# EAGLE library part TLC5928 (library ASL)
TI 16 Channel Constant Current LED Driver
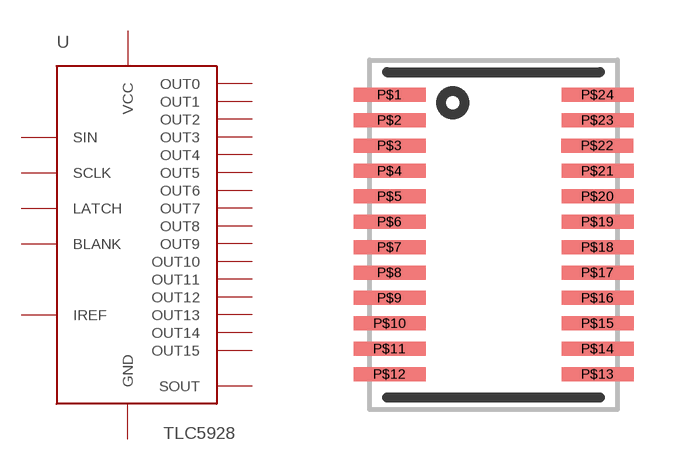
[diagram p20: symbol with the pads of TSSOP-24; footprint TSSOP-24]

Designator prefix U

## TLC5928DBQR  [TSSOP-24]
P$1  GND  pwr
P$2  SIN  in
P$3  SCLK  in
P$4  LATCH  in
P$5  OUT0  out
P$6  OUT1  out
P$7  OUT2  out
P$8  OUT3  out
P$9  OUT4  out
P$10  OUT5  out
P$11  OUT6  out
P$12  OUT7  out
P$13  OUT8  out
P$14  OUT9  out
P$15  OUT10  out
P$16  OUT11  out
P$17  OUT12  out
P$18  OUT13  out
P$19  OUT14  out
P$20  OUT15  out
P$21  BLANK  in
P$22  SOUT  in
P$23  IREF  in
P$24  VCC  pwr

## Footprint TSSOP-24 (pad centres in mm)
TSSOP-24
smd 1.8 x 0.35: P$1 -2.6,3.5; P$2 -2.6,2.865; P$3 -2.6,2.23; P$4 -2.6,1.595; P$5 -2.6,0.96; P$6 -2.6,0.325; P$7 -2.6,-0.31; P$8 -2.6,-0.945; P$9 -2.6,-1.58; P$10 -2.595,-2.215; P$11 -2.6,-2.85; P$12 -2.6,-3.485; P$13 2.6,-3.485; P$14 2.6,-2.85; P$15 2.6,-2.215; P$16 2.6,-1.58; P$17 2.6,-0.945; P$18 2.6,-0.31; P$19 2.6,0.325; P$20 2.6,0.96; P$21 2.6,1.595; P$22 2.595,2.23; P$23 2.6,2.865; P$24 2.6,3.5